# Altium footprint library WR-TBL_Spring Clamp_5.00mm.PcbLib: 78 footprints (part 4 of 5)
Each footprint in its own frame and in the unit in brackets; x right, y up, seen from the top. Pads: shape width x height; smd on the part's side, far side on the other; paste and mask are expansions set on the pad; w line width, h text height; cw(c..) or ccw(c..) is an arc to the next point about the centre after c.
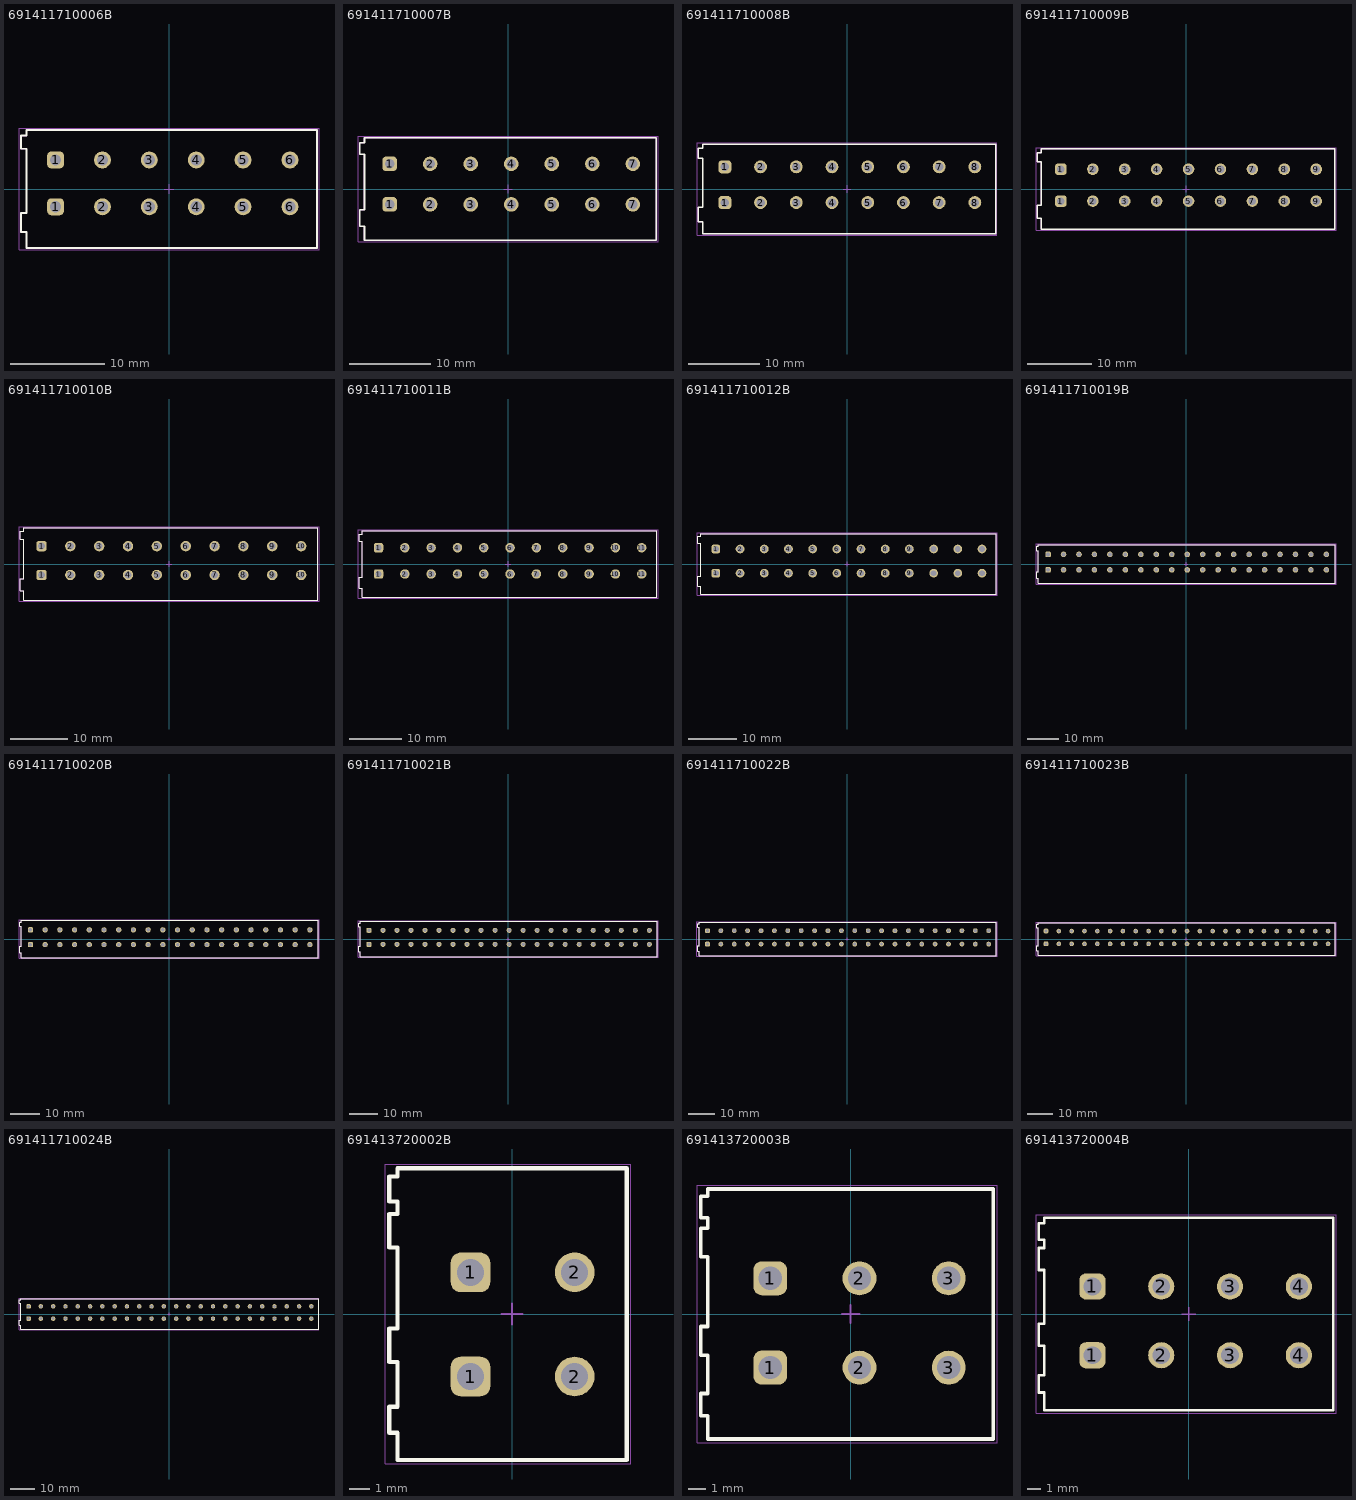
[diagram p3: the footprints below, top view; thin cyan lines are the x and y axes]

## 691411710006B [mm] "5.00 mm Screwless Horizontal Entry - 2.0 mm2 Wires, 6p"
height 15.25
pads (12):
  rrect50% 1.8x1.8 hole 1.2: 1(-12.1,-1.9) 1(-12.1,3.1)
  round 1.8 hole 1.2: 2(-7.1,-1.9) 2(-7.1,3.1) 3(-2.1,-1.9) 3(-2.1,3.1) 4(2.9,-1.9) 4(2.9,3.1) 5(7.9,-1.9) 5(7.9,3.1) 6(12.9,-1.9) 6(12.9,3.1)
Top Overlay:
  lines w0.2: -15.8,-4.6 -15.2,-4.6 -15.2,-6.3 15.8,-6.3 15.8,6.3 -15.2,6.3 -15.2,5.7 -15.8,5.7 -15.8,4.3 -15.2,4.3 -15.2,-2.55 -15.8,-2.55 -15.8,-4.6
Top Assembly:
  lines w0.1: -15.8,-4.6 -15.8,-2.55 -15.2,-2.55 -15.2,4.3 -15.8,4.3 -15.8,5.7 -15.2,5.7 -15.2,6.3 15.8,6.3 15.8,-6.3 -15.2,-6.3 -15.2,-4.6 -15.8,-4.6
Top Designator:
  text ".Designator" at -3.647,-0.357 h1
Top 3D Body:
  lines w0.1: -15.8,-4.6 -15.2,-4.6 -15.2,-6.3 15.8,-6.3 15.8,6.3 -15.2,6.3 -15.2,5.7 -15.8,5.7 -15.8,4.3 -15.2,4.3 -15.2,-2.55 -15.8,-2.55 -15.8,-4.6
Top Courtyard:
  lines w0.05: -16,-6.5 16,-6.5 16,6.5 -16,6.5 -16,-6.5
Top Component Center:
  lines w0.1: -0.5,0 0.5,0 ; 0,-0.5 0,0.5
3D body "691411710006B.stp": height 15.65, standoff -3.55, extent -15.8,-6.3 15.8,6.3

## 691411710007B [mm] "5.00 mm Screwless Horizontal Entry - 2.0 mm2 Wires, 7p"
height 15.25
pads (14):
  rrect50% 1.8x1.8 hole 1.2: 1(-14.6,-1.9) 1(-14.6,3.1)
  round 1.8 hole 1.2: 2(-9.6,-1.9) 2(-9.6,3.1) 3(-4.6,-1.9) 3(-4.6,3.1) 4(0.4,-1.9) 4(0.4,3.1) 5(5.4,-1.9) 5(5.4,3.1) 6(10.4,-1.9) 6(10.4,3.1) 7(15.4,-1.9) 7(15.4,3.1)
Top Overlay:
  lines w0.2: -18.3,-4.6 -17.7,-4.6 -17.7,-6.3 18.3,-6.3 18.3,6.3 -17.7,6.3 -17.7,5.7 -18.3,5.7 -18.3,4.3 -17.7,4.3 -17.7,-2.55 -18.3,-2.55 -18.3,-4.6
Top Assembly:
  lines w0.1: -18.3,-4.6 -18.3,-2.55 -17.7,-2.55 -17.7,4.3 -18.3,4.3 -18.3,5.7 -17.7,5.7 -17.7,6.3 18.3,6.3 18.3,-6.3 -17.7,-6.3 -17.7,-4.6 -18.3,-4.6
Top Designator:
  text ".Designator" at -3.647,-0.357 h1
Top 3D Body:
  lines w0.1: -18.3,-4.6 -17.7,-4.6 -17.7,-6.3 18.3,-6.3 18.3,6.3 -17.7,6.3 -17.7,5.7 -18.3,5.7 -18.3,4.3 -17.7,4.3 -17.7,-2.55 -18.3,-2.55 -18.3,-4.6
Top Courtyard:
  lines w0.05: -18.5,-6.5 18.5,-6.5 18.5,6.5 -18.5,6.5 -18.5,-6.5
Top Component Center:
  lines w0.1: -0.5,0 0.5,0 ; 0,-0.5 0,0.5
3D body "691411710007B.stp": height 15.65, standoff -3.55, extent -18.3,-6.3 18.3,6.3

## 691411710008B [mm] "5.00 mm Screwless Horizontal Entry - 2.0 mm2 Wires, 8p"
height 15.25
pads (16):
  rrect50% 1.8x1.8 hole 1.2: 1(-17.1,-1.9) 1(-17.1,3.1)
  round 1.8 hole 1.2: 2(-12.1,-1.9) 2(-12.1,3.1) 3(-7.1,-1.9) 3(-7.1,3.1) 4(-2.1,-1.9) 4(-2.1,3.1) 5(2.9,-1.9) 5(2.9,3.1) 6(7.9,-1.9) 6(7.9,3.1) 7(12.9,-1.9) 7(12.9,3.1) 8(17.9,-1.9) 8(17.9,3.1)
Top Overlay:
  lines w0.2: -20.8,-4.6 -20.2,-4.6 -20.2,-6.3 20.8,-6.3 20.8,6.3 -20.2,6.3 -20.2,5.7 -20.8,5.7 -20.8,4.3 -20.2,4.3 -20.2,-2.55 -20.8,-2.55 -20.8,-4.6
Top Assembly:
  lines w0.1: -20.8,-4.6 -20.8,-2.55 -20.2,-2.55 -20.2,4.3 -20.8,4.3 -20.8,5.7 -20.2,5.7 -20.2,6.3 20.8,6.3 20.8,-6.3 -20.2,-6.3 -20.2,-4.6 -20.8,-4.6
Top Designator:
  text ".Designator" at -3.647,-0.357 h1
Top 3D Body:
  lines w0.1: -20.8,-4.6 -20.2,-4.6 -20.2,-6.3 20.8,-6.3 20.8,6.3 -20.2,6.3 -20.2,5.7 -20.8,5.7 -20.8,4.3 -20.2,4.3 -20.2,-2.55 -20.8,-2.55 -20.8,-4.6
Top Courtyard:
  lines w0.05: -21,-6.5 21,-6.5 21,6.5 -21,6.5 -21,-6.5
Top Component Center:
  lines w0.1: -0.5,0 0.5,0 ; 0,-0.5 0,0.5
3D body "691411710008B.stp": height 15.65, standoff -3.55, extent -20.8,-6.3 20.8,6.3

## 691411710009B [mm] "5.00 mm Screwless Horizontal Entry - 2.0 mm2 Wires, 9p"
height 15.25
pads (18):
  rrect50% 1.8x1.8 hole 1.2: 1(-19.6,-1.9) 1(-19.6,3.1)
  round 1.8 hole 1.2: 2(-14.6,-1.9) 2(-14.6,3.1) 3(-9.6,-1.9) 3(-9.6,3.1) 4(-4.6,-1.9) 4(-4.6,3.1) 5(0.4,-1.9) 5(0.4,3.1) 6(5.4,-1.9) 6(5.4,3.1) 7(10.4,-1.9) 7(10.4,3.1) 8(15.4,-1.9) 8(15.4,3.1) 9(20.4,-1.9) 9(20.4,3.1)
Top Overlay:
  lines w0.2: -23.3,-4.6 -22.7,-4.6 -22.7,-6.3 23.3,-6.3 23.3,6.3 -22.7,6.3 -22.7,5.7 -23.3,5.7 -23.3,4.3 -22.7,4.3 -22.7,-2.55 -23.3,-2.55 -23.3,-4.6
Top Assembly:
  lines w0.1: -23.3,-4.6 -23.3,-2.55 -22.7,-2.55 -22.7,4.3 -23.3,4.3 -23.3,5.7 -22.7,5.7 -22.7,6.3 23.3,6.3 23.3,-6.3 -22.7,-6.3 -22.7,-4.6 -23.3,-4.6
Top Designator:
  text ".Designator" at -3.647,-0.357 h1
Top 3D Body:
  lines w0.1: -23.3,-4.6 -22.7,-4.6 -22.7,-6.3 23.3,-6.3 23.3,6.3 -22.7,6.3 -22.7,5.7 -23.3,5.7 -23.3,4.3 -22.7,4.3 -22.7,-2.55 -23.3,-2.55 -23.3,-4.6
Top Courtyard:
  lines w0.05: -23.5,-6.5 23.5,-6.5 23.5,6.5 -23.5,6.5 -23.5,-6.5
Top Component Center:
  lines w0.1: -0.5,0 0.5,0 ; 0,-0.5 0,0.5
3D body "691411710009B.stp": height 15.65, standoff -3.55, extent -23.3,-6.3 23.3,6.3

## 691411710010B [mm] "5.00 mm Screwless Horizontal Entry - 2.0 mm2 Wires, 10p"
height 15.25
pads (20):
  rrect50% 1.8x1.8 hole 1.2: 1(-22.1,-1.9) 1(-22.1,3.1)
  round 1.8 hole 1.2: 2(-17.1,-1.9) 2(-17.1,3.1) 3(-12.1,-1.9) 3(-12.1,3.1) 4(-7.1,-1.9) 4(-7.1,3.1) 5(-2.1,-1.9) 5(-2.1,3.1) 6(2.9,-1.9) 6(2.9,3.1) 7(7.9,-1.9) 7(7.9,3.1) 8(12.9,-1.9) 8(12.9,3.1) 9(17.9,-1.9) 9(17.9,3.1) 10(22.9,-1.9) 10(22.9,3.1)
Top Overlay:
  lines w0.2: -25.8,-4.6 -25.2,-4.6 -25.2,-6.3 25.8,-6.3 25.8,6.3 -25.2,6.3 -25.2,5.7 -25.8,5.7 -25.8,4.3 -25.2,4.3 -25.2,-2.55 -25.8,-2.55 -25.8,-4.6
Top Assembly:
  lines w0.1: -25.8,-4.6 -25.8,-2.55 -25.2,-2.55 -25.2,4.3 -25.8,4.3 -25.8,5.7 -25.2,5.7 -25.2,6.3 25.8,6.3 25.8,-6.3 -25.2,-6.3 -25.2,-4.6 -25.8,-4.6
Top Designator:
  text ".Designator" at -3.647,-0.357 h1
Top 3D Body:
  lines w0.1: -25.8,-4.6 -25.2,-4.6 -25.2,-6.3 25.8,-6.3 25.8,6.3 -25.2,6.3 -25.2,5.7 -25.8,5.7 -25.8,4.3 -25.2,4.3 -25.2,-2.55 -25.8,-2.55 -25.8,-4.6
Top Courtyard:
  lines w0.05: -26,-6.5 26,-6.5 26,6.5 -26,6.5 -26,-6.5
Top Component Center:
  lines w0.1: -0.5,0 0.5,0 ; 0,-0.5 0,0.5
3D body "691411710010B.stp": height 15.65, standoff -3.55, extent -25.8,-6.3 25.8,6.3

## 691411710011B [mm] "5.00 mm Screwless Horizontal Entry - 2.0 mm2 Wires, 11p"
height 15.25
pads (22):
  rrect50% 1.8x1.8 hole 1.2: 1(-24.6,-1.9) 1(-24.6,3.1)
  round 1.8 hole 1.2: 2(-19.6,-1.9) 2(-19.6,3.1) 3(-14.6,-1.9) 3(-14.6,3.1) 4(-9.6,-1.9) 4(-9.6,3.1) 5(-4.6,-1.9) 5(-4.6,3.1) 6(0.4,-1.9) 6(0.4,3.1) 7(5.4,-1.9) 7(5.4,3.1) 8(10.4,-1.9) 8(10.4,3.1) 9(15.4,-1.9) 9(15.4,3.1) 10(20.4,-1.9) 10(20.4,3.1) 11(25.4,-1.9) 11(25.4,3.1)
Top Overlay:
  lines w0.2: -28.3,-4.6 -27.7,-4.6 -27.7,-6.3 28.3,-6.3 28.3,6.3 -27.7,6.3 -27.7,5.7 -28.3,5.7 -28.3,4.3 -27.7,4.3 -27.7,-2.55 -28.3,-2.55 -28.3,-4.6
Top Assembly:
  lines w0.1: -28.3,-4.6 -28.3,-2.55 -27.7,-2.55 -27.7,4.3 -28.3,4.3 -28.3,5.7 -27.7,5.7 -27.7,6.3 28.3,6.3 28.3,-6.3 -27.7,-6.3 -27.7,-4.6 -28.3,-4.6
Top Designator:
  text ".Designator" at -3.647,-0.357 h1
Top 3D Body:
  lines w0.1: -28.3,-4.6 -27.7,-4.6 -27.7,-6.3 28.3,-6.3 28.3,6.3 -27.7,6.3 -27.7,5.7 -28.3,5.7 -28.3,4.3 -27.7,4.3 -27.7,-2.55 -28.3,-2.55 -28.3,-4.6
Top Courtyard:
  lines w0.05: -28.5,-6.5 28.5,-6.5 28.5,6.5 -28.5,6.5 -28.5,-6.5
Top Component Center:
  lines w0.1: -0.5,0 0.5,0 ; 0,-0.5 0,0.5
3D body "691411710011B.stp": height 15.65, standoff -3.55, extent -28.3,-6.3 28.3,6.3

## 691411710012B [mm] "5.00 mm Screwless Horizontal Entry - 2.0 mm2 Wires, 12p"
height 15.25
pads (24):
  rrect50% 1.8x1.8 hole 1.2: 1(-27.1,-1.9) 1(-27.1,3.1)
  round 1.8 hole 1.2: 2(-22.1,-1.9) 2(-22.1,3.1) 3(-17.1,-1.9) 3(-17.1,3.1) 4(-12.1,-1.9) 4(-12.1,3.1) 5(-7.1,-1.9) 5(-7.1,3.1) 6(-2.1,-1.9) 6(-2.1,3.1) 7(2.9,-1.9) 7(2.9,3.1) 8(7.9,-1.9) 8(7.9,3.1) 9(12.9,-1.9) 9(12.9,3.1) 10(17.9,-1.9) 10(17.9,3.1) 11(22.9,-1.9) 11(22.9,3.1) 12(27.9,-1.9) 12(27.9,3.1)
Top Overlay:
  lines w0.2: -30.8,-4.6 -30.2,-4.6 -30.2,-6.3 30.8,-6.3 30.8,6.3 -30.2,6.3 -30.2,5.7 -30.8,5.7 -30.8,4.3 -30.2,4.3 -30.2,-2.55 -30.8,-2.55 -30.8,-4.6
Top Assembly:
  lines w0.1: -30.8,-4.6 -30.8,-2.55 -30.2,-2.55 -30.2,4.3 -30.8,4.3 -30.8,5.7 -30.2,5.7 -30.2,6.3 30.8,6.3 30.8,-6.3 -30.2,-6.3 -30.2,-4.6 -30.8,-4.6
Top Designator:
  text ".Designator" at -3.647,-0.357 h1
Top 3D Body:
  lines w0.1: -30.8,-4.6 -30.2,-4.6 -30.2,-6.3 30.8,-6.3 30.8,6.3 -30.2,6.3 -30.2,5.7 -30.8,5.7 -30.8,4.3 -30.2,4.3 -30.2,-2.55 -30.8,-2.55 -30.8,-4.6
Top Courtyard:
  lines w0.05: -31,-6.5 31,-6.5 31,6.5 -31,6.5 -31,-6.5
Top Component Center:
  lines w0.1: -0.5,0 0.5,0 ; 0,-0.5 0,0.5
3D body "691411710012B.stp": height 15.65, standoff -3.55, extent -30.8,-6.3 30.8,6.3

## 691411710019B [mm] "5.00 mm Screwless Horizontal Entry - 2.0 mm2 Wires, 19p"
height 15.25
pads (38):
  rrect50% 1.8x1.8 hole 1.2: 1(-44.6,-1.9) 1(-44.6,3.1)
  round 1.8 hole 1.2: 2(-39.6,-1.9) 2(-39.6,3.1) 3(-34.6,-1.9) 3(-34.6,3.1) 4(-29.6,-1.9) 4(-29.6,3.1) 5(-24.6,-1.9) 5(-24.6,3.1) 6(-19.6,-1.9) 6(-19.6,3.1) 7(-14.6,-1.9) 7(-14.6,3.1) 8(-9.6,-1.9) 8(-9.6,3.1) 9(-4.6,-1.9) 9(-4.6,3.1) 10(0.4,-1.9) 10(0.4,3.1) 11(5.4,-1.9) 11(5.4,3.1) 12(10.4,-1.9) 12(10.4,3.1) 13(15.4,-1.9) 13(15.4,3.1) 14(20.4,-1.9) 14(20.4,3.1) 15(25.4,-1.9) 15(25.4,3.1) 16(30.4,-1.9) 16(30.4,3.1) 17(35.4,-1.9) 17(35.4,3.1) 18(40.4,-1.9) 18(40.4,3.1) 19(45.4,-1.9) 19(45.4,3.1)
Top Overlay:
  lines w0.2: -48.3,-4.6 -48.3,-2.55 -47.7,-2.55 -47.7,4.3 -48.3,4.3 -48.3,5.7 -47.7,5.7 -47.7,6.3 48.3,6.3 48.3,-6.3 -47.7,-6.3 -47.7,-4.6 -48.3,-4.6
Top Assembly:
  lines w0.1: -48.3,-4.6 -47.7,-4.6 -47.7,-6.3 48.3,-6.3 48.3,6.3 -47.7,6.3 -47.7,5.7 -48.3,5.7 -48.3,4.3 -47.7,4.3 -47.7,-2.55 -48.3,-2.55 -48.3,-4.6
Top Designator:
  text ".Designator" at -3.647,-0.357 h1
Top 3D Body:
  lines w0.1: -48.3,-4.6 -48.3,-2.55 -47.7,-2.55 -47.7,4.3 -48.3,4.3 -48.3,5.7 -47.7,5.7 -47.7,6.3 48.3,6.3 48.3,-6.3 -47.7,-6.3 -47.7,-4.6 -48.3,-4.6
Top Courtyard:
  lines w0.05: -48.5,-6.5 48.5,-6.5 48.5,6.5 -48.5,6.5 -48.5,-6.5
Top Component Center:
  lines w0.1: -0.5,0 0.5,0 ; 0,-0.5 0,0.5
3D body "691411710019B.stp": height 15.65, standoff -3.55, extent -48.3,-6.3 48.3,6.3

## 691411710020B [mm] "5.00 mm Screwless Horizontal Entry - 2.0 mm2 Wires, 20p"
height 15.25
pads (40):
  rrect50% 1.8x1.8 hole 1.2: 1(-47.1,-1.9) 1(-47.1,3.1)
  round 1.8 hole 1.2: 2(-42.1,-1.9) 2(-42.1,3.1) 3(-37.1,-1.9) 3(-37.1,3.1) 4(-32.1,-1.9) 4(-32.1,3.1) 5(-27.1,-1.9) 5(-27.1,3.1) 6(-22.1,-1.9) 6(-22.1,3.1) 7(-17.1,-1.9) 7(-17.1,3.1) 8(-12.1,-1.9) 8(-12.1,3.1) 9(-7.1,-1.9) 9(-7.1,3.1) 10(-2.1,-1.9) 10(-2.1,3.1) 11(2.9,-1.9) 11(2.9,3.1) 12(7.9,-1.9) 12(7.9,3.1) 13(12.9,-1.9) 13(12.9,3.1) 14(17.9,-1.9) 14(17.9,3.1) 15(22.9,-1.9) 15(22.9,3.1) 16(27.9,-1.9) 16(27.9,3.1) 17(32.9,-1.9) 17(32.9,3.1) 18(37.9,-1.9) 18(37.9,3.1) 19(42.9,-1.9) 19(42.9,3.1) 20(47.9,-1.9) 20(47.9,3.1)
Top Overlay:
  lines w0.2: -50.8,-4.6 -50.2,-4.6 -50.2,-6.3 50.8,-6.3 50.8,6.3 -50.2,6.3 -50.2,5.7 -50.8,5.7 -50.8,4.3 -50.2,4.3 -50.2,-2.55 -50.8,-2.55 -50.8,-4.6
Top Assembly:
  lines w0.1: -50.8,-4.6 -50.8,-2.55 -50.2,-2.55 -50.2,4.3 -50.8,4.3 -50.8,5.7 -50.2,5.7 -50.2,6.3 50.8,6.3 50.8,-6.3 -50.2,-6.3 -50.2,-4.6 -50.8,-4.6
Top Designator:
  text ".Designator" at -3.647,-0.357 h1
Top 3D Body:
  lines w0.1: -50.8,-4.6 -50.2,-4.6 -50.2,-6.3 50.8,-6.3 50.8,6.3 -50.2,6.3 -50.2,5.7 -50.8,5.7 -50.8,4.3 -50.2,4.3 -50.2,-2.55 -50.8,-2.55 -50.8,-4.6
Top Courtyard:
  lines w0.05: -51,-6.5 51,-6.5 51,6.5 -51,6.5 -51,-6.5
Top Component Center:
  lines w0.1: -0.5,0 0.5,0 ; 0,-0.5 0,0.5
3D body "691411710020B.stp": height 15.65, standoff -3.55, extent -50.8,-6.3 50.8,6.3

## 691411710021B [mm] "5.00 mm Screwless Horizontal Entry - 2.0 mm2 Wires, 21p"
height 15.25
pads (42):
  rrect50% 1.8x1.8 hole 1.2: 1(-49.6,-1.9) 1(-49.6,3.1)
  round 1.8 hole 1.2: 2(-44.6,-1.9) 2(-44.6,3.1) 3(-39.6,-1.9) 3(-39.6,3.1) 4(-34.6,-1.9) 4(-34.6,3.1) 5(-29.6,-1.9) 5(-29.6,3.1) 6(-24.6,-1.9) 6(-24.6,3.1) 7(-19.6,-1.9) 7(-19.6,3.1) 8(-14.6,-1.9) 8(-14.6,3.1) 9(-9.6,-1.9) 9(-9.6,3.1) 10(-4.6,-1.9) 10(-4.6,3.1) 11(0.4,-1.9) 11(0.4,3.1) 12(5.4,-1.9) 12(5.4,3.1) 13(10.4,-1.9) 13(10.4,3.1) 14(15.4,-1.9) 14(15.4,3.1) 15(20.4,-1.9) 15(20.4,3.1) 16(25.4,-1.9) 16(25.4,3.1) 17(30.4,-1.9) 17(30.4,3.1) 18(35.4,-1.9) 18(35.4,3.1) 19(40.4,-1.9) 19(40.4,3.1) 20(45.4,-1.9) 20(45.4,3.1) 21(50.4,-1.9) 21(50.4,3.1)
Top Overlay:
  lines w0.2: -53.3,-4.6 -52.7,-4.6 -52.7,-6.3 53.3,-6.3 53.3,6.3 -52.7,6.3 -52.7,5.7 -53.3,5.7 -53.3,4.3 -52.7,4.3 -52.7,-2.55 -53.3,-2.55 -53.3,-4.6
Top Assembly:
  lines w0.1: -53.3,-4.6 -53.3,-2.55 -52.7,-2.55 -52.7,4.3 -53.3,4.3 -53.3,5.7 -52.7,5.7 -52.7,6.3 53.3,6.3 53.3,-6.3 -52.7,-6.3 -52.7,-4.6 -53.3,-4.6
Top Designator:
  text ".Designator" at -3.647,-0.357 h1
Top 3D Body:
  lines w0.1: -53.3,-4.6 -52.7,-4.6 -52.7,-6.3 53.3,-6.3 53.3,6.3 -52.7,6.3 -52.7,5.7 -53.3,5.7 -53.3,4.3 -52.7,4.3 -52.7,-2.55 -53.3,-2.55 -53.3,-4.6
Top Courtyard:
  lines w0.05: -53.5,-6.5 53.5,-6.5 53.5,6.5 -53.5,6.5 -53.5,-6.5
Top Component Center:
  lines w0.1: -0.5,0 0.5,0 ; 0,-0.5 0,0.5
3D body "691411710021B.stp": height 15.65, standoff -3.55, extent -53.3,-6.3 53.3,6.3

## 691411710022B [mm] "5.00 mm Screwless Horizontal Entry - 2.0 mm2 Wires, 22p"
height 15.25
pads (44):
  rrect50% 1.8x1.8 hole 1.2: 1(-52.1,-1.9) 1(-52.1,3.1)
  round 1.8 hole 1.2: 2(-47.1,-1.9) 2(-47.1,3.1) 3(-42.1,-1.9) 3(-42.1,3.1) 4(-37.1,-1.9) 4(-37.1,3.1) 5(-32.1,-1.9) 5(-32.1,3.1) 6(-27.1,-1.9) 6(-27.1,3.1) 7(-22.1,-1.9) 7(-22.1,3.1) 8(-17.1,-1.9) 8(-17.1,3.1) 9(-12.1,-1.9) 9(-12.1,3.1) 10(-7.1,-1.9) 10(-7.1,3.1) 11(-2.1,-1.9) 11(-2.1,3.1) 12(2.9,-1.9) 12(2.9,3.1) 13(7.9,-1.9) 13(7.9,3.1) 14(12.9,-1.9) 14(12.9,3.1) 15(17.9,-1.9) 15(17.9,3.1) 16(22.9,-1.9) 16(22.9,3.1) 17(27.9,-1.9) 17(27.9,3.1) 18(32.9,-1.9) 18(32.9,3.1) 19(37.9,-1.9) 19(37.9,3.1) 20(42.9,-1.9) 20(42.9,3.1) 21(47.9,-1.9) 21(47.9,3.1) 22(52.9,-1.9) 22(52.9,3.1)
Top Overlay:
  lines w0.2: -55.8,-4.6 -55.8,-2.55 -55.2,-2.55 -55.2,4.3 -55.8,4.3 -55.8,5.7 -55.2,5.7 -55.2,6.3 55.8,6.3 55.8,-6.3 -55.2,-6.3 -55.2,-4.6 -55.8,-4.6
Top Assembly:
  lines w0.1: -55.8,-4.6 -55.2,-4.6 -55.2,-6.3 55.8,-6.3 55.8,6.3 -55.2,6.3 -55.2,5.7 -55.8,5.7 -55.8,4.3 -55.2,4.3 -55.2,-2.55 -55.8,-2.55 -55.8,-4.6
Top Designator:
  text ".Designator" at -3.647,-0.357 h1
Top 3D Body:
  lines w0.1: -55.8,-4.6 -55.8,-2.55 -55.2,-2.55 -55.2,4.3 -55.8,4.3 -55.8,5.7 -55.2,5.7 -55.2,6.3 55.8,6.3 55.8,-6.3 -55.2,-6.3 -55.2,-4.6 -55.8,-4.6
Top Courtyard:
  lines w0.05: -56,-6.5 -56,6.5 56,6.5 56,-6.5 -56,-6.5
Top Component Center:
  lines w0.1: -0.5,0 0.5,0 ; 0,-0.5 0,0.5
3D body "691411710022B.stp": height 15.65, standoff -3.55, extent -55.8,-6.3 55.8,6.3

## 691411710023B [mm] "5.00 mm Screwless Horizontal Entry - 2.0 mm2 Wires, 23p"
height 15.25
pads (46):
  rrect50% 1.8x1.8 hole 1.2: 1(-54.6,-1.9) 1(-54.6,3.1)
  round 1.8 hole 1.2: 2(-49.6,-1.9) 2(-49.6,3.1) 3(-44.6,-1.9) 3(-44.6,3.1) 4(-39.6,-1.9) 4(-39.6,3.1) 5(-34.6,-1.9) 5(-34.6,3.1) 6(-29.6,-1.9) 6(-29.6,3.1) 7(-24.6,-1.9) 7(-24.6,3.1) 8(-19.6,-1.9) 8(-19.6,3.1) 9(-14.6,-1.9) 9(-14.6,3.1) 10(-9.6,-1.9) 10(-9.6,3.1) 11(-4.6,-1.9) 11(-4.6,3.1) 12(0.4,-1.9) 12(0.4,3.1) 13(5.4,-1.9) 13(5.4,3.1) 14(10.4,-1.9) 14(10.4,3.1) 15(15.4,-1.9) 15(15.4,3.1) 16(20.4,-1.9) 16(20.4,3.1) 17(25.4,-1.9) 17(25.4,3.1) 18(30.4,-1.9) 18(30.4,3.1) 19(35.4,-1.9) 19(35.4,3.1) 20(40.4,-1.9) 20(40.4,3.1) 21(45.4,-1.9) 21(45.4,3.1) 22(50.4,-1.9) 22(50.4,3.1) 23(55.4,-1.9) 23(55.4,3.1)
Top Overlay:
  lines w0.2: -58.3,-4.6 -57.7,-4.6 -57.7,-6.3 58.3,-6.3 58.3,6.3 -57.7,6.3 -57.7,5.7 -58.3,5.7 -58.3,4.3 -57.7,4.3 -57.7,-2.55 -58.3,-2.55 -58.3,-4.6
Top Assembly:
  lines w0.1: -58.3,-4.6 -58.3,-2.55 -57.7,-2.55 -57.7,4.3 -58.3,4.3 -58.3,5.7 -57.7,5.7 -57.7,6.3 58.3,6.3 58.3,-6.3 -57.7,-6.3 -57.7,-4.6 -58.3,-4.6
Top Designator:
  text ".Designator" at -3.647,-0.357 h1
Top 3D Body:
  lines w0.1: -58.3,-4.6 -57.7,-4.6 -57.7,-6.3 58.3,-6.3 58.3,6.3 -57.7,6.3 -57.7,5.7 -58.3,5.7 -58.3,4.3 -57.7,4.3 -57.7,-2.55 -58.3,-2.55 -58.3,-4.6
Top Courtyard:
  lines w0.05: -58.5,-6.5 58.5,-6.5 58.5,6.5 -58.5,6.5 -58.5,-6.5
Top Component Center:
  lines w0.1: -0.5,0 0.5,0 ; 0,-0.5 0,0.5
3D body "691411710023B.stp": height 15.65, standoff -3.55, extent -58.3,-6.3 58.3,6.3

## 691411710024B [mm] "5.00 mm Screwless Horizontal Entry - 2.0 mm2 Wires, 24p"
height 15.25
pads (48):
  rrect50% 1.8x1.8 hole 1.2: 1(-57.1,-1.9) 1(-57.1,3.1)
  round 1.8 hole 1.2: 2(-52.1,-1.9) 2(-52.1,3.1) 3(-47.1,-1.9) 3(-47.1,3.1) 4(-42.1,-1.9) 4(-42.1,3.1) 5(-37.1,-1.9) 5(-37.1,3.1) 6(-32.1,-1.9) 6(-32.1,3.1) 7(-27.1,-1.9) 7(-27.1,3.1) 8(-22.1,-1.9) 8(-22.1,3.1) 9(-17.1,-1.9) 9(-17.1,3.1) 10(-12.1,-1.9) 10(-12.1,3.1) 11(-7.1,-1.9) 11(-7.1,3.1) 12(-2.1,-1.9) 12(-2.1,3.1) 13(2.9,-1.9) 13(2.9,3.1) 14(7.9,-1.9) 14(7.9,3.1) 15(12.9,-1.9) 15(12.9,3.1) 16(17.9,-1.9) 16(17.9,3.1) 17(22.9,-1.9) 17(22.9,3.1) 18(27.9,-1.9) 18(27.9,3.1) 19(32.9,-1.9) 19(32.9,3.1) 20(37.9,-1.9) 20(37.9,3.1) 21(42.9,-1.9) 21(42.9,3.1) 22(47.9,-1.9) 22(47.9,3.1) 23(52.9,-1.9) 23(52.9,3.1) 24(57.9,-1.9) 24(57.9,3.1)
Top Overlay:
  lines w0.2: -60.8,-4.6 -60.2,-4.6 -60.2,-6.3 60.8,-6.3 60.8,6.3 -60.2,6.3 -60.2,5.7 -60.8,5.7 -60.8,4.3 -60.2,4.3 -60.2,-2.55 -60.8,-2.55 -60.8,-4.6
Top Assembly:
  lines w0.1: -60.8,-4.6 -60.8,-2.55 -60.2,-2.55 -60.2,4.3 -60.8,4.3 -60.8,5.7 -60.2,5.7 -60.2,6.3 60.8,6.3 60.8,-6.3 -60.2,-6.3 -60.2,-4.6 -60.8,-4.6
Top Designator:
  text ".Designator" at -3.647,-0.357 h1
Top 3D Body:
  lines w0.1: -60.8,-4.6 -60.2,-4.6 -60.2,-6.3 60.8,-6.3 60.8,6.3 -60.2,6.3 -60.2,5.7 -60.8,5.7 -60.8,4.3 -60.2,4.3 -60.2,-2.55 -60.8,-2.55 -60.8,-4.6
Top Courtyard:
  lines w0.05: -61,-6.5 61,-6.5 61,6.5 -61,6.5 -61,-6.5
Top Component Center:
  lines w0.1: -0.5,0 0.5,0 ; 0,-0.5 0,0.5
3D body "691411710024B.stp": height 15.65, standoff -3.55, extent -60.8,-6.3 60.8,6.3

## 691413720002B [mm] "5.00 mm Screwless 45¡ã Entry - 3.00 mm2 Wires, 2p"
height 13
pads (4):
  rrect50% 1.9x1.9 hole 1.3: 1(-2,-3) 1(-2,2)
  round 1.9 hole 1.3: 2(3,-3) 2(3,2)
Top Overlay:
  lines w0.2: -5.9,-5.7 -5.9,-4.45 -5.5,-4.45 -5.5,-2.3 -5.9,-2.3 -5.9,-0.7 -5.5,-0.7 -5.5,3.2 -5.9,3.2 -5.9,4.8 -5.5,4.8 -5.5,5.4 -5.9,5.4 -5.9,6.6 -5.5,6.6 -5.5,7 5.5,7 5.5,-7 -5.5,-7 -5.5,-5.7 -5.9,-5.7
Top Assembly:
  lines w0.1: -5.9,-5.7 -5.5,-5.7 -5.5,-7 5.5,-7 5.5,7 -5.5,7 -5.5,6.6 -5.9,6.6 -5.9,5.4 -5.5,5.4 -5.5,4.8 -5.9,4.8 -5.9,3.2 -5.5,3.2 -5.5,-0.7 -5.9,-0.7 -5.9,-2.3 -5.5,-2.3 -5.5,-4.45 -5.9,-4.45 -5.9,-5.7
Top Designator:
  text ".Designator" at -3.647,-0.357 h1
Top 3D Body:
  lines w0.1: -5.9,-5.7 -5.9,-4.45 -5.5,-4.45 -5.5,-2.3 -5.9,-2.3 -5.9,-0.7 -5.5,-0.7 -5.5,3.2 -5.9,3.2 -5.9,4.8 -5.5,4.8 -5.5,5.4 -5.9,5.4 -5.9,6.6 -5.5,6.6 -5.5,7 5.5,7 5.5,-7 -5.5,-7 -5.5,-5.7 -5.9,-5.7
Top Courtyard:
  lines w0.05: -6.1,-7.2 -6.1,7.2 5.7,7.2 5.7,-7.2 -6.1,-7.2
Top Component Center:
  lines w0.1: -0.5,0 0.5,0 ; 0,-0.5 0,0.5
3D body "691413720002B.stp": height 13.08, standoff -3.42, extent -5.9,-7 5.5,7

## 691413720003B [mm] "5.00 mm Screwless 45¡ã Entry - 3.00 mm2 Wires, 3p"
height 13
pads (6):
  rrect50% 1.9x1.9 hole 1.3: 1(-4.5,-3) 1(-4.5,2)
  round 1.9 hole 1.3: 2(0.5,-3) 2(0.5,2) 3(5.5,-3) 3(5.5,2)
Top Overlay:
  lines w0.2: -8.4,-5.7 -8,-5.7 -8,-7 8,-7 8,7 -8,7 -8,6.6 -8.4,6.6 -8.4,5.4 -8,5.4 -8,4.8 -8.4,4.8 -8.4,3.2 -8,3.2 -8,-0.7 -8.4,-0.7 -8.4,-2.3 -8,-2.3 -8,-4.45 -8.4,-4.45 -8.4,-5.7
Top Assembly:
  lines w0.1: -8.4,-5.7 -8.4,-4.45 -8,-4.45 -8,-2.3 -8.4,-2.3 -8.4,-0.7 -8,-0.7 -8,3.2 -8.4,3.2 -8.4,4.8 -8,4.8 -8,5.4 -8.4,5.4 -8.4,6.6 -8,6.6 -8,7 8,7 8,-7 -8,-7 -8,-5.7 -8.4,-5.7
Top Designator:
  text ".Designator" at -3.647,-0.357 h1
Top 3D Body:
  lines w0.1: -8.4,-5.7 -8,-5.7 -8,-7 8,-7 8,7 -8,7 -8,6.6 -8.4,6.6 -8.4,5.4 -8,5.4 -8,4.8 -8.4,4.8 -8.4,3.2 -8,3.2 -8,-0.7 -8.4,-0.7 -8.4,-2.3 -8,-2.3 -8,-4.45 -8.4,-4.45 -8.4,-5.7
Top Courtyard:
  lines w0.05: -8.6,-7.2 8.2,-7.2 8.2,7.2 -8.6,7.2 -8.6,-7.2
Top Component Center:
  lines w0.1: -0.5,0 0.5,0 ; 0,-0.5 0,0.5
3D body "691413720003B.stp": height 13.08, standoff -3.42, extent -8.4,-7 8,7

## 691413720004B [mm] "5.00 mm Screwless 45¡ã Entry - 3.00 mm2 Wires, 4p"
height 13
pads (8):
  rrect50% 1.9x1.9 hole 1.3: 1(-7,-3) 1(-7,2)
  round 1.9 hole 1.3: 2(-2,-3) 2(-2,2) 3(3,-3) 3(3,2) 4(8,-3) 4(8,2)
Top Overlay:
  lines w0.2: -10.9,-5.7 -10.9,-4.45 -10.5,-4.45 -10.5,-2.3 -10.9,-2.3 -10.9,-0.7 -10.5,-0.7 -10.5,3.2 -10.9,3.2 -10.9,4.8 -10.5,4.8 -10.5,5.4 -10.9,5.4 -10.9,6.6 -10.5,6.6 -10.5,7 10.5,7 10.5,-7 -10.5,-7 -10.5,-5.7 -10.9,-5.7
Top Assembly:
  lines w0.1: -10.9,-5.7 -10.5,-5.7 -10.5,-7 10.5,-7 10.5,7 -10.5,7 -10.5,6.6 -10.9,6.6 -10.9,5.4 -10.5,5.4 -10.5,4.8 -10.9,4.8 -10.9,3.2 -10.5,3.2 -10.5,-0.7 -10.9,-0.7 -10.9,-2.3 -10.5,-2.3 -10.5,-4.45 -10.9,-4.45 -10.9,-5.7
Top Designator:
  text ".Designator" at -3.647,-0.357 h1
Top 3D Body:
  lines w0.1: -10.9,-5.7 -10.9,-4.45 -10.5,-4.45 -10.5,-2.3 -10.9,-2.3 -10.9,-0.7 -10.5,-0.7 -10.5,3.2 -10.9,3.2 -10.9,4.8 -10.5,4.8 -10.5,5.4 -10.9,5.4 -10.9,6.6 -10.5,6.6 -10.5,7 10.5,7 10.5,-7 -10.5,-7 -10.5,-5.7 -10.9,-5.7
Top Courtyard:
  lines w0.05: -11.1,-7.2 -11.1,7.2 10.7,7.2 10.7,-7.2 -11.1,-7.2
Top Component Center:
  lines w0.1: -0.5,0 0.5,0 ; 0,-0.5 0,0.5
3D body "691413720004B.stp": height 13.08, standoff -3.42, extent -10.9,-7 10.5,7